# Altium schematic symbol library sch_ne5532.SchLib: 1 symbol
Pins are listed as number, name and electrical type; pins without a type are passive.

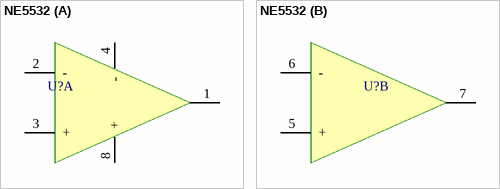
[diagram p0: symbol NE5532]

## NE5532
designator U?
Integrado con 4 operacionales
footprint D8
part A pins: 1 OUT, 2 -, 3 +, 4 -, 8 + (power)
part B pins: 5 +, 6 -, 7 OUT